# Altium schematic symbol library PLM61495QRPHRQ1.SchLib: 2 symbols
Pins are listed as number, name and electrical type; pins without a type are passive.

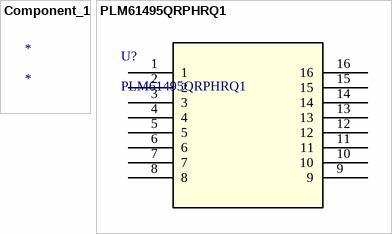
[diagram p0: symbols Component_1 to PLM61495QRPHRQ1]

## Component_1
designator *

## PLM61495QRPHRQ1
designator U?
10-A automotive buck converter optimized for power density and low EMI 16-VQFN-HR -40 to 150; Manufacturer_Name: Texas Instruments; Copyright: Copyright (C) 2025 Ultra Librarian. All rights reserved.; Manufacturer_Part_Number: PLM61495QRPHRQ1; Datasheet: https://www.ti.com/lit/gpn/lm61495-q1; RefDes: RefDes; Type: Type
footprint VQFN-HR16_RPH_TEX
pins: 1, 2, 3, 4, 5, 6, 7, 8, 9, 10, 11, 12, 13, 14, 15, 16